# Altium footprint library TACTILE_SWITCHES.PcbLib: 1 footprints
Each footprint in its own frame and in the unit in brackets; x right, y up, seen from the top. Pads: shape width x height; smd on the part's side, far side on the other; paste and mask are expansions set on the pad; w line width, h text height; cw(c..) or ccw(c..) is an arc to the next point about the centre after c.
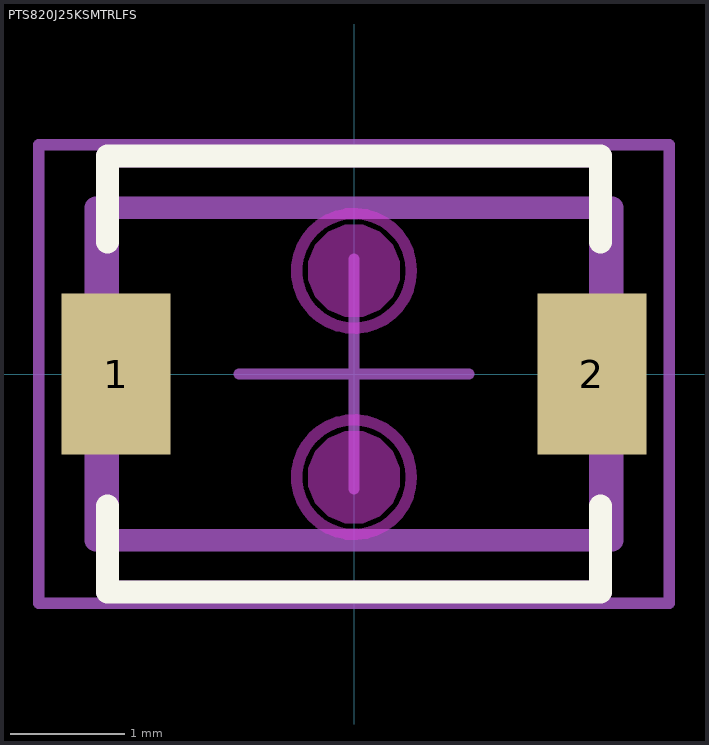
[diagram p0: the footprint, top view; thin cyan lines are the x and y axes]

## PTS820J25KSMTRLFS [mm] "C&K Series-PTS Tactile Switch PTS820 J25K SMTR LFS"
pads (2):
  rect 0.95x1.4 smd: 1(-2.075,0) 2(2.075,0)
Top Overlay:
  lines w0.2: -2.15,-1.15 -2.15,-1.9 2.15,-1.9 2.15,-1.15 ; -2.15,1.15 -2.15,1.9 2.15,1.9 2.15,1.15
Keep-Out Layer:
  board cut-out: 0,0.5 -0.08,0.5 -0.227,0.561 -0.339,0.673 -0.4,0.82 -0.4,0.9 -0.4,0.98 -0.339,1.127 -0.227,1.239 -0.08,1.3 0,1.3 0.08,1.3 0.227,1.239 0.339,1.127 0.4,0.98 0.4,0.9 0.4,0.82 0.339,0.673 0.227,0.561 0.08,0.5
  board cut-out: -0.4,-0.9 -0.4,-0.98 -0.339,-1.127 -0.227,-1.239 -0.08,-1.3 0,-1.3 0.08,-1.3 0.227,-1.239 0.339,-1.127 0.4,-0.98 0.4,-0.9 0.4,-0.82 0.339,-0.673 0.227,-0.561 0.08,-0.5 0,-0.5 -0.08,-0.5 -0.227,-0.561 -0.339,-0.673 -0.4,-0.82
Keep-Out Layer:
  circle w0.1: c0,-0.9 r0.5
  circle w0.1: c0,0.9 r0.5
Top Assembly:
  lines w0.2: -2.15,-1.9 2.15,-1.9 2.15,1.9 -2.15,1.9 -2.15,-1.9
Top Component Center:
  lines w0.1: -1,0 1,0 ; 0,-1 0,1
Top Component Outline:
  lines w0.2: -2.25,-1.45 -2.25,1.45 2.25,1.45 2.25,-1.45 -2.25,-1.45
Top Courtyard:
  lines w0.1: -2.75,-2 2.75,-2 2.75,2 -2.75,2 -2.75,-2
Top Designator:
  text ".Designator" at -2.868,0.092 h1.52
3D body "PTS820J25KSMTRLFS.stp": height 2.02, standoff 0.01, extent -2.25,-1.45 2.25,1.45